# Altium integrated library motorola-sensor-driver.IntLib: 16 symbols
Pins are listed as number, name and electrical type; pins without a type are passive.

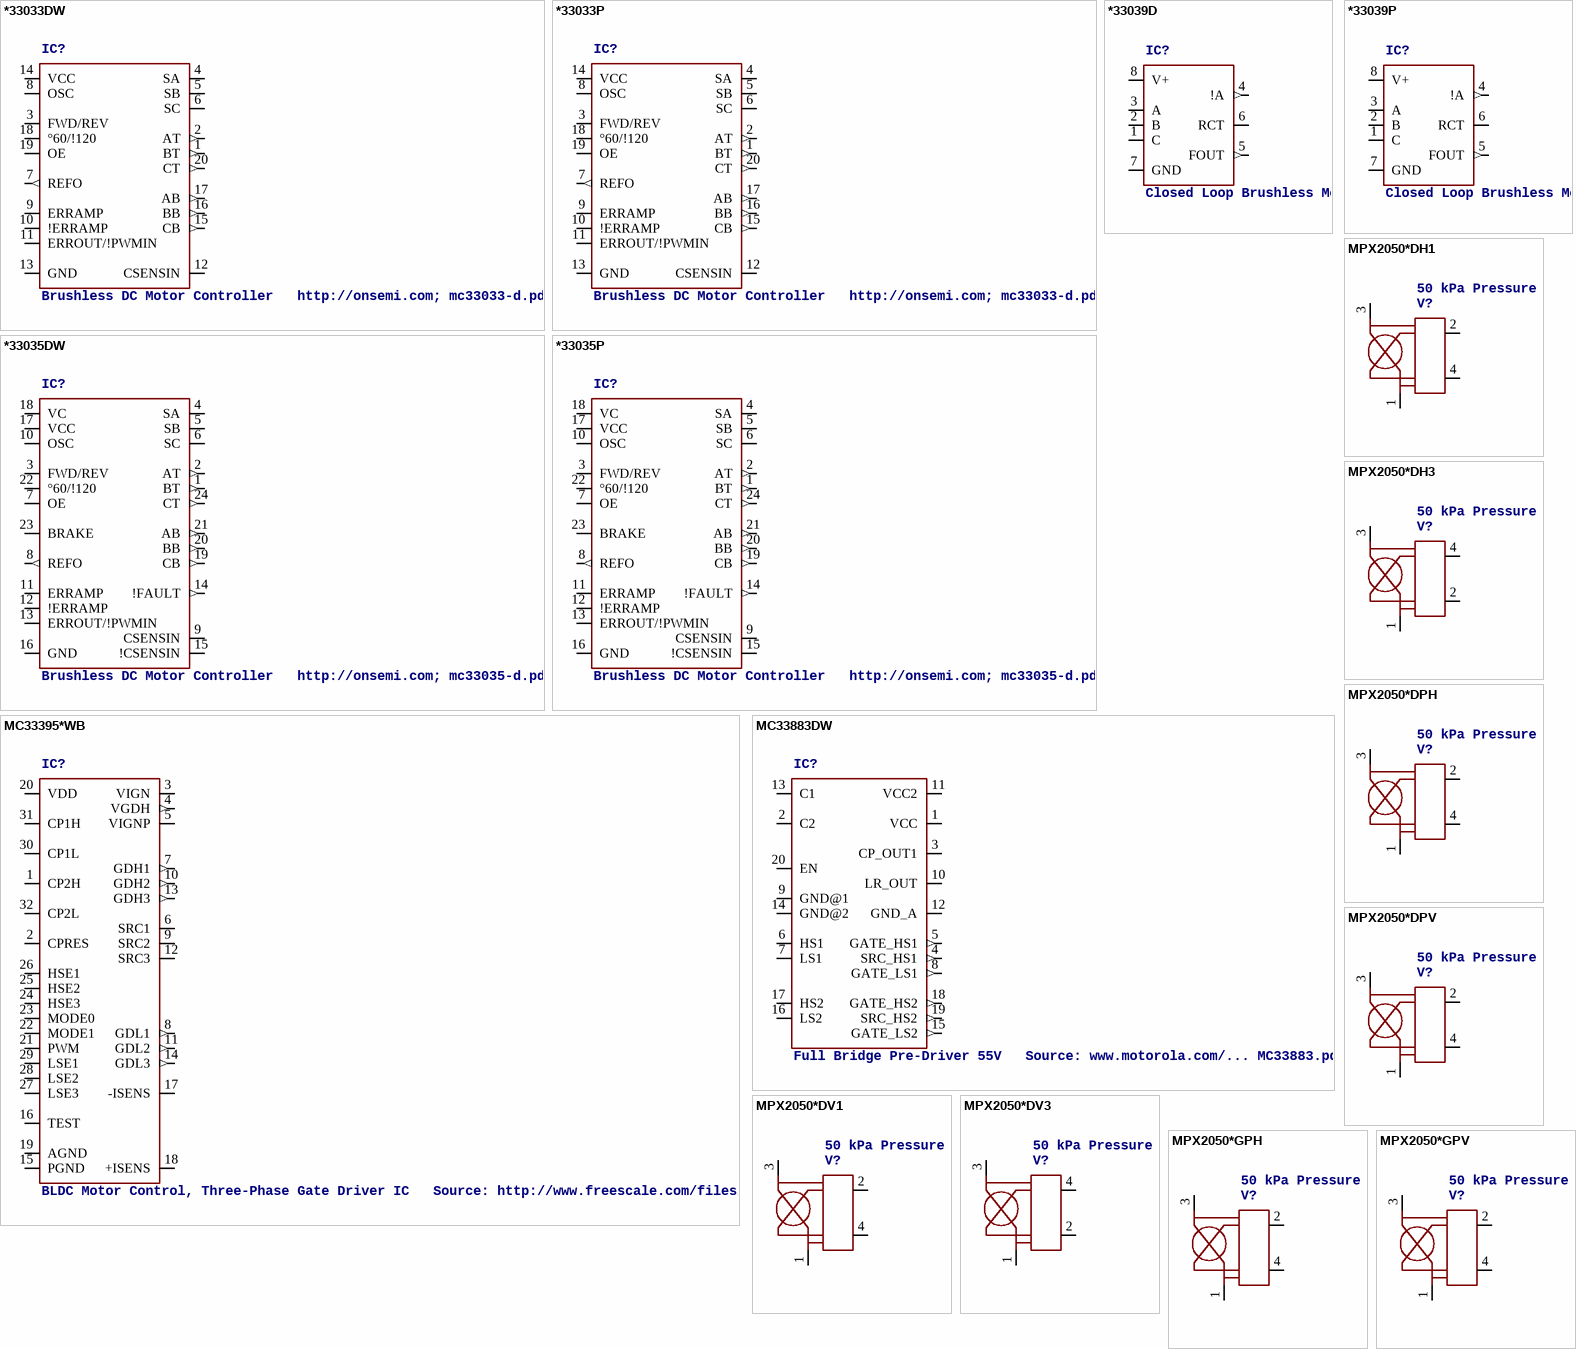
[diagram p0: symbols *33033DW to MPX2050*GPV]

## *33033DW
designator IC?, comment Brushless DC Motor Controller   http://onsemi.com; mc33033-d.pdf
MPN: MC33033DW; MPN: NCV33033DWR2; MF: ON SEMICONDUCTOR; OC_FARNELL: 1364058; OC_NEWARK: 07F4692; OC_FARNELL: unknown; OC_NEWARK: 67C3169
footprint SO20L
pins: 1 BT (out), 2 AT (out), 3 FWD/REV, 4 SA, 5 SB, 6 SC, 7 REFO (out), 8 OSC, 9 ERRAMP, 10 !ERRAMP, 11 ERROUT/!PWMIN, 12 CSENSIN, 13 GND (power), 14 VCC (power), 15 CB (out), 16 BB (out), 17 AB (out), 18 °60/!120, 19 OE, 20 CT (out)

## *33033P
designator IC?, comment Brushless DC Motor Controller   http://onsemi.com; mc33033-d.pdf
MPN: MC33033P; MF: ON SEMICONDUCTOR; OC_FARNELL: 702857; OC_NEWARK: 07F4693
footprint DIL20
pins: 1 BT (out), 2 AT (out), 3 FWD/REV, 4 SA, 5 SB, 6 SC, 7 REFO (out), 8 OSC, 9 ERRAMP, 10 !ERRAMP, 11 ERROUT/!PWMIN, 12 CSENSIN, 13 GND (power), 14 VCC (power), 15 CB (out), 16 BB (out), 17 AB (out), 18 °60/!120, 19 OE, 20 CT (out)

## *33035DW
designator IC?, comment Brushless DC Motor Controller   http://onsemi.com; mc33035-d.pdf
MPN: MC33035DW; MPN: NCV33035DWR2; MF: ON SEMICONDUCTOR; OC_FARNELL: 1652428; OC_NEWARK: 07F4697; OC_FARNELL: unknown; OC_NEWARK: 67C3170
footprint SO24L
pins: 1 BT (out), 2 AT (out), 3 FWD/REV, 4 SA, 5 SB, 6 SC, 7 OE, 8 REFO (out), 9 CSENSIN, 10 OSC, 11 ERRAMP, 12 !ERRAMP, 13 ERROUT/!PWMIN, 14 !FAULT (out), 15 !CSENSIN, 16 GND (power), 17 VCC (power), 18 VC (power), 19 CB (out), 20 BB (out), 21 AB (out), 22 °60/!120, 23 BRAKE, 24 CT (out)

## *33035P
designator IC?, comment Brushless DC Motor Controller   http://onsemi.com; mc33035-d.pdf
MPN: MC33035P; MF: ON SEMICONDUCTOR; OC_FARNELL: 1192056; OC_NEWARK: 07F4698
footprint DIL24S
pins: 1 BT (out), 2 AT (out), 3 FWD/REV, 4 SA, 5 SB, 6 SC, 7 OE, 8 REFO (out), 9 CSENSIN, 10 OSC, 11 ERRAMP, 12 !ERRAMP, 13 ERROUT/!PWMIN, 14 !FAULT (out), 15 !CSENSIN, 16 GND (power), 17 VCC (power), 18 VC (power), 19 CB (out), 20 BB (out), 21 AB (out), 22 °60/!120, 23 BRAKE, 24 CT (out)

## *33039D
designator IC?, comment Closed Loop Brushless Motor Adapter   *NCV33039: Tlow = -40C, Thigh = +125C. Guaranteed by design. http://onsemi.com; mc33039-d.pdf
MPN: MC33039D; MPN: NCV33039DR2G; MF: ON SEMICONDUCTOR; OC_FARNELL: 1150437; OC_NEWARK: 07F4700; OC_FARNELL: unknown; OC_NEWARK: 42K2044
footprint SO08
pins: 1 C, 2 B, 3 A, 4 !A (out), 5 FOUT (out), 6 RCT, 7 GND (power), 8 V+ (power)

## *33039P
designator IC?, comment Closed Loop Brushless Motor Adapter   *NCV33039: Tlow = -40C, Thigh = +125C. Guaranteed by design. http://onsemi.com; mc33039-d.pdf
MPN: MC33039P; MF: ON SEMICONDUCTOR; OC_FARNELL: unknown; OC_NEWARK: 07F4701
footprint DIP08
pins: 1 C, 2 B, 3 A, 4 !A (out), 5 FOUT (out), 6 RCT, 7 GND (power), 8 V+ (power)

## MC33395*WB
designator IC?, comment BLDC Motor Control, Three-Phase Gate Driver IC   Source: http://www.freescale.com/files/analog/doc/data_sheet/MC33395.pdf
MPN: MC33395TEW; OC_FARNELL: unknown; OC_NEWARK: unknown; OC_FARNELL: 1380046; OC_NEWARK: 81K2764
footprint SOICW32
pins: 1 CP2H, 2 CPRES, 3 VIGN (power), 4 VGDH (out), 5 VIGNP, 6 SRC1, 7 GDH1 (out), 8 GDL1 (out), 9 SRC2, 10 GDH2 (out), 11 GDL2 (out), 12 SRC3, 13 GDH3 (out), 14 GDL3 (out), 15 PGND (power), 16 TEST, 17 -ISENS, 18 +ISENS, 19 AGND (power), 20 VDD (power), 21 PWM, 22 MODE1, 23 MODE0, 24 HSE3, 25 HSE2, 26 HSE1, 27 LSE3, 28 LSE2, 29 LSE1, 30 CP1L, 31 CP1H, 32 CP2L

## MC33883DW
designator IC?, comment Full Bridge Pre-Driver 55V   Source: www.motorola.com/... MC33883.pdf
OC_FARNELL: unknown; OC_NEWARK: unknown
footprint SO20L
pins: 1 VCC (power), 2 C2, 3 CP_OUT1, 4 SRC_HS1 (out), 5 GATE_HS1 (out), 6 HS1, 7 LS1, 8 GATE_LS1 (out), 9 GND@1 (power), 10 LR_OUT, 11 VCC2 (power), 12 GND_A (power), 13 C1, 14 GND@2 (power), 15 GATE_LS2 (out), 16 LS2, 17 HS2, 18 GATE_HS2 (out), 19 SRC_HS2 (out), 20 EN

## MPX2050*DH1
designator V?, comment 50 kPa Pressure Sensor   On-Chip Temparetur Compensated & Calibrated Silicon Pressure Sensor
OC_FARNELL: unknown; OC_NEWARK: unknown
footprint MPX2050DH
pins: 1 GND, 2 VO+, 3 VS, 4 VO-

## MPX2050*DH3
designator V?, comment 50 kPa Pressure Sensor   On-Chip Temparetur Compensated & Calibrated Silicon Pressure Sensor
OC_FARNELL: unknown; OC_NEWARK: unknown
footprint MPX2050DH
pins: 1 GND, 2 VO-, 3 VS, 4 VO+

## MPX2050*DPH
designator V?, comment 50 kPa Pressure Sensor   On-Chip Temparetur Compensated & Calibrated Silicon Pressure Sensor
OC_FARNELL: unknown; OC_NEWARK: unknown
footprint MPX2050DPH
pins: 1 GND, 2 VO+, 3 VS, 4 VO-

## MPX2050*DPV
designator V?, comment 50 kPa Pressure Sensor   On-Chip Temparetur Compensated & Calibrated Silicon Pressure Sensor
MPN: MPX2050DP; MF: MOTOROLA; OC_FARNELL: 3506642; OC_NEWARK: 48F6766
footprint MPX2050DPV
pins: 1 GND, 2 VO+, 3 VS, 4 VO-

## MPX2050*DV1
designator V?, comment 50 kPa Pressure Sensor   On-Chip Temparetur Compensated & Calibrated Silicon Pressure Sensor
OC_FARNELL: unknown; OC_NEWARK: unknown
footprint MPX2050DV
pins: 1 GND, 2 VO+, 3 VS, 4 VO-

## MPX2050*DV3
designator V?, comment 50 kPa Pressure Sensor   On-Chip Temparetur Compensated & Calibrated Silicon Pressure Sensor
OC_FARNELL: unknown; OC_NEWARK: unknown
footprint MPX2050DV
pins: 1 GND, 2 VO-, 3 VS, 4 VO+

## MPX2050*GPH
designator V?, comment 50 kPa Pressure Sensor   On-Chip Temparetur Compensated & Calibrated Silicon Pressure Sensor
OC_FARNELL: unknown; OC_NEWARK: unknown
footprint MPX2050DH
pins: 1 GND, 2 VO+, 3 VS, 4 VO-

## MPX2050*GPV
designator V?, comment 50 kPa Pressure Sensor   On-Chip Temparetur Compensated & Calibrated Silicon Pressure Sensor
MPN: MPX2050GP; MF: MOTOROLA; OC_FARNELL: 8814910; OC_NEWARK: 48F6767
footprint MPX2050GPV
pins: 1 GND, 2 VO+, 3 VS, 4 VO-